# Altium footprint library MicroSMD_50P_V.PcbLib: 85 footprints (part 4 of 7)
Each footprint in its own frame and in the unit in brackets; x right, y up, seen from the top. Pads: shape width x height; smd on the part's side, far side on the other; paste and mask are expansions set on the pad; w line width, h text height; cw(c..) or ccw(c..) is an arc to the next point about the centre after c.
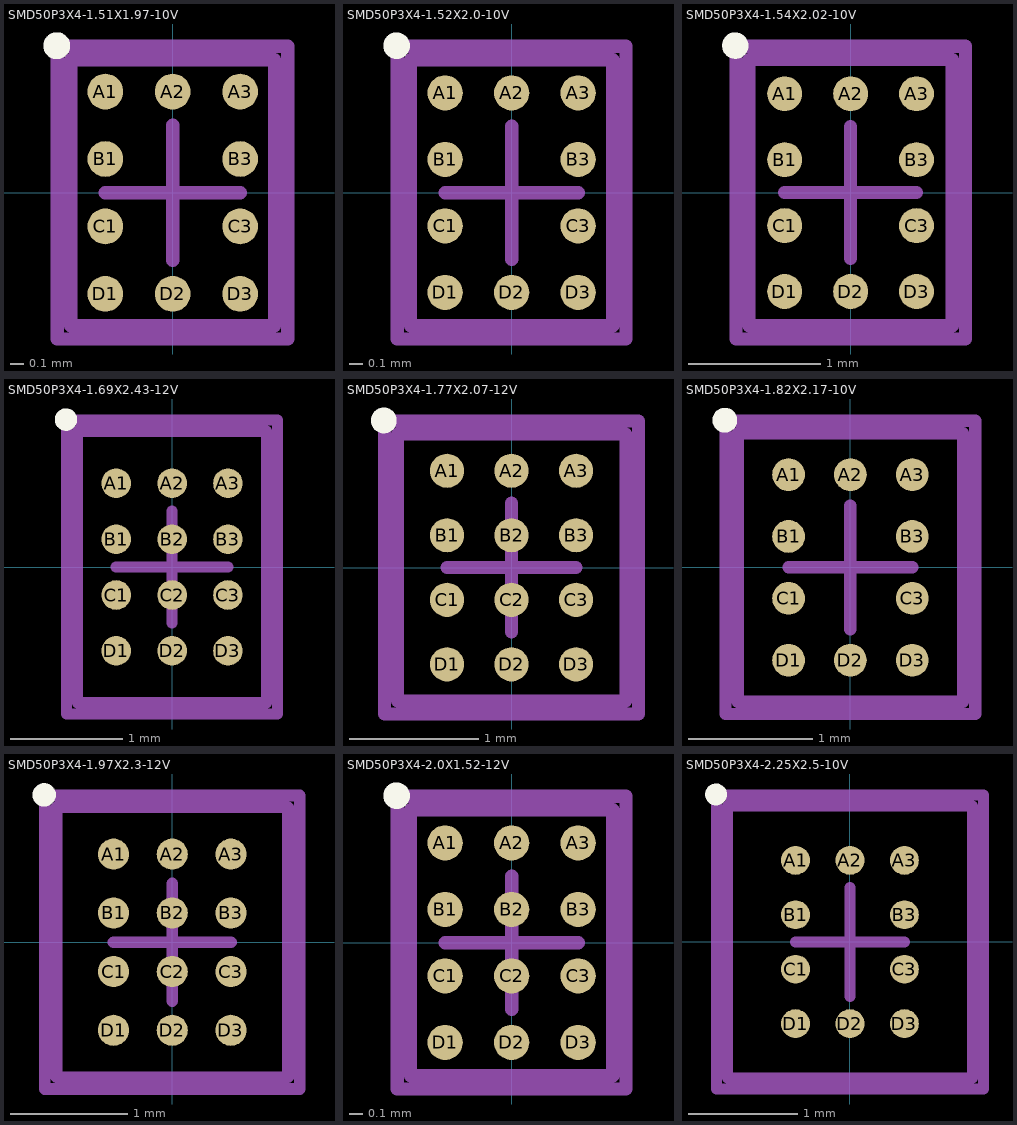
[diagram p3: the footprints below, top view; thin cyan lines are the x and y axes]

## SMD50P3X4-1.51X1.97-10V [mm] "Micro SMD, 10-Leads, Body 1.97x1.51mm, Pitch 0.5mm, NSC Recommended"
height 0.68
pads (10):
  round 0.265 smd paste-0.132 mask+0.05: A1(-0.5,0.75) A2(0,0.75) A3(0.5,0.75) B1(-0.5,0.25) B3(0.5,0.25) C1(-0.5,-0.25) C3(0.5,-0.25) D1(-0.5,-0.75) D2(0,-0.75) D3(0.5,-0.75)
Top Overlay:
  circle w0.1: c-0.86,1.09 r0.05
Top Paste:
  circle w0.05: c0.45,-0.7 r0.025
  circle w0.05: c0.6,-0.85 r0.025
  circle w0.05: c0.6,-0.7 r0.025
  circle w0.05: c0.45,-0.85 r0.025
  circle w0.05: c-0.075,-0.7 r0.025
  circle w0.05: c0.075,-0.85 r0.025
  circle w0.05: c0.075,-0.7 r0.025
  circle w0.05: c-0.075,-0.85 r0.025
  circle w0.05: c-0.6,-0.7 r0.025
  circle w0.05: c-0.45,-0.85 r0.025
  circle w0.05: c-0.45,-0.7 r0.025
  circle w0.05: c-0.6,-0.85 r0.025
  circle w0.05: c0.45,-0.175 r0.025
  circle w0.05: c0.6,-0.325 r0.025
  circle w0.05: c0.6,-0.175 r0.025
  circle w0.05: c0.45,-0.325 r0.025
  circle w0.05: c-0.6,-0.175 r0.025
  circle w0.05: c-0.45,-0.325 r0.025
  circle w0.05: c-0.45,-0.175 r0.025
  circle w0.05: c-0.6,-0.325 r0.025
  circle w0.05: c0.45,0.325 r0.025
  circle w0.05: c0.6,0.175 r0.025
  circle w0.05: c0.6,0.325 r0.025
  circle w0.05: c0.45,0.175 r0.025
  circle w0.05: c-0.6,0.325 r0.025
  circle w0.05: c-0.45,0.175 r0.025
  circle w0.05: c-0.45,0.325 r0.025
  circle w0.05: c-0.6,0.175 r0.025
  circle w0.05: c0.45,0.85 r0.025
  circle w0.05: c0.6,0.7 r0.025
  circle w0.05: c0.6,0.85 r0.025
  circle w0.05: c0.45,0.7 r0.025
  circle w0.05: c-0.075,0.85 r0.025
  circle w0.05: c0.075,0.7 r0.025
  circle w0.05: c0.075,0.85 r0.025
  circle w0.05: c-0.075,0.7 r0.025
  circle w0.05: c-0.6,0.85 r0.025
  circle w0.05: c-0.45,0.7 r0.025
  circle w0.05: c-0.45,0.85 r0.025
  circle w0.05: c-0.6,0.7 r0.025
  region: 0.6,-0.85 0.45,-0.85 0.45,-0.9 0.6,-0.9
  region: 0.6,-0.7 0.6,-0.85 0.65,-0.85 0.65,-0.7
  rectangle: 0.45,-0.7 0.6,-0.65
  region: 0.45,-0.85 0.45,-0.7 0.4,-0.7 0.4,-0.85
  region: 0.45,-0.7 0.45,-0.85 0.6,-0.85 0.6,-0.7
  region: 0.075,-0.85 -0.075,-0.85 -0.075,-0.9 0.075,-0.9
  region: 0.075,-0.7 0.075,-0.85 0.125,-0.85 0.125,-0.7
  rectangle: -0.075,-0.7 0.075,-0.65
  region: -0.075,-0.85 -0.075,-0.7 -0.125,-0.7 -0.125,-0.85
  region: -0.075,-0.7 -0.075,-0.85 0.075,-0.85 0.075,-0.7
  region: -0.45,-0.85 -0.6,-0.85 -0.6,-0.9 -0.45,-0.9
  region: -0.45,-0.7 -0.45,-0.85 -0.4,-0.85 -0.4,-0.7
  rectangle: -0.6,-0.7 -0.45,-0.65
  region: -0.6,-0.85 -0.6,-0.7 -0.65,-0.7 -0.65,-0.85
  region: -0.6,-0.7 -0.6,-0.85 -0.45,-0.85 -0.45,-0.7
  region: 0.6,-0.325 0.45,-0.325 0.45,-0.375 0.6,-0.375
  region: 0.6,-0.175 0.6,-0.325 0.65,-0.325 0.65,-0.175
  rectangle: 0.45,-0.175 0.6,-0.125
  region: 0.45,-0.325 0.45,-0.175 0.4,-0.175 0.4,-0.325
  region: 0.45,-0.175 0.45,-0.325 0.6,-0.325 0.6,-0.175
  region: -0.45,-0.325 -0.6,-0.325 -0.6,-0.375 -0.45,-0.375
  region: -0.45,-0.175 -0.45,-0.325 -0.4,-0.325 -0.4,-0.175
  rectangle: -0.6,-0.175 -0.45,-0.125
  region: -0.6,-0.325 -0.6,-0.175 -0.65,-0.175 -0.65,-0.325
  region: -0.6,-0.175 -0.6,-0.325 -0.45,-0.325 -0.45,-0.175
  region: 0.6,0.175 0.45,0.175 0.45,0.125 0.6,0.125
  region: 0.6,0.325 0.6,0.175 0.65,0.175 0.65,0.325
  rectangle: 0.45,0.325 0.6,0.375
  region: 0.45,0.175 0.45,0.325 0.4,0.325 0.4,0.175
  region: 0.45,0.325 0.45,0.175 0.6,0.175 0.6,0.325
  region: -0.45,0.175 -0.6,0.175 -0.6,0.125 -0.45,0.125
  region: -0.45,0.325 -0.45,0.175 -0.4,0.175 -0.4,0.325
  rectangle: -0.6,0.325 -0.45,0.375
  region: -0.6,0.175 -0.6,0.325 -0.65,0.325 -0.65,0.175
  region: -0.6,0.325 -0.6,0.175 -0.45,0.175 -0.45,0.325
  region: 0.6,0.7 0.45,0.7 0.45,0.65 0.6,0.65
  region: 0.6,0.85 0.6,0.7 0.65,0.7 0.65,0.85
  rectangle: 0.45,0.85 0.6,0.9
  region: 0.45,0.7 0.45,0.85 0.4,0.85 0.4,0.7
  region: 0.45,0.85 0.45,0.7 0.6,0.7 0.6,0.85
  region: 0.075,0.7 -0.075,0.7 -0.075,0.65 0.075,0.65
  region: 0.075,0.85 0.075,0.7 0.125,0.7 0.125,0.85
  rectangle: -0.075,0.85 0.075,0.9
  region: -0.075,0.7 -0.075,0.85 -0.125,0.85 -0.125,0.7
  region: -0.075,0.85 -0.075,0.7 0.075,0.7 0.075,0.85
  region: -0.45,0.7 -0.6,0.7 -0.6,0.65 -0.45,0.65
  region: -0.45,0.85 -0.45,0.7 -0.4,0.7 -0.4,0.85
  rectangle: -0.6,0.85 -0.45,0.9
  region: -0.6,0.7 -0.6,0.85 -0.65,0.85 -0.65,0.7
  region: -0.6,0.85 -0.6,0.7 -0.45,0.7 -0.45,0.85
Mechanical 13:
  lines w0.1: -0.755,-0.985 0.755,-0.985 0.755,0.985 -0.755,0.985 -0.755,-0.985
Mechanical 15:
  lines w0.1: -0.5,0 0.5,0 ; 0,-0.5 0,0.5 ; -0.855,-1.085 0.855,-1.085 0.855,1.085 -0.855,1.085 -0.855,-1.085
3D body: height 0.68, standoff 0, extent -0.76,-0.985 0.76,0.985

## SMD50P3X4-1.52X2.0-10V [mm] "Micro SMD, 10-Leads, Body 2.0x1.52mm, Pitch 0.5mm, NSC Recommended"
height 1.05
pads (10):
  round 0.265 smd paste-0.132 mask+0.05: A1(-0.5,0.75) A2(0,0.75) A3(0.5,0.75) B1(-0.5,0.25) B3(0.5,0.25) C1(-0.5,-0.25) C3(0.5,-0.25) D1(-0.5,-0.75) D2(0,-0.75) D3(0.5,-0.75)
Top Overlay:
  circle w0.1: c-0.865,1.105 r0.05
Top Paste:
  circle w0.05: c-0.6,0.7 r0.025
  circle w0.05: c-0.45,0.85 r0.025
  circle w0.05: c-0.6,0.85 r0.025
  circle w0.05: c-0.45,0.7 r0.025
  circle w0.05: c0.45,0.85 r0.025
  circle w0.05: c0.6,0.7 r0.025
  circle w0.05: c0.6,0.85 r0.025
  circle w0.05: c0.45,0.7 r0.025
  circle w0.05: c0.6,-0.7 r0.025
  circle w0.05: c0.45,-0.85 r0.025
  circle w0.05: c0.6,-0.85 r0.025
  circle w0.05: c0.45,-0.7 r0.025
  circle w0.05: c-0.45,-0.85 r0.025
  circle w0.05: c-0.6,-0.7 r0.025
  circle w0.05: c-0.6,-0.85 r0.025
  circle w0.05: c-0.45,-0.7 r0.025
  circle w0.05: c-0.075,0.7 r0.025
  circle w0.05: c0.075,0.85 r0.025
  circle w0.05: c0.075,0.7 r0.025
  circle w0.05: c-0.075,0.85 r0.025
  circle w0.05: c-0.45,0.175 r0.025
  circle w0.05: c-0.6,0.325 r0.025
  circle w0.05: c-0.45,0.325 r0.025
  circle w0.05: c-0.6,0.175 r0.025
  circle w0.05: c-0.45,-0.325 r0.025
  circle w0.05: c-0.6,-0.175 r0.025
  circle w0.05: c-0.45,-0.175 r0.025
  circle w0.05: c-0.6,-0.325 r0.025
  circle w0.05: c0.075,-0.7 r0.025
  circle w0.05: c-0.075,-0.85 r0.025
  circle w0.05: c-0.075,-0.7 r0.025
  circle w0.05: c0.075,-0.85 r0.025
  circle w0.05: c0.45,-0.175 r0.025
  circle w0.05: c0.6,-0.325 r0.025
  circle w0.05: c0.45,-0.325 r0.025
  circle w0.05: c0.6,-0.175 r0.025
  circle w0.05: c0.45,0.325 r0.025
  circle w0.05: c0.6,0.175 r0.025
  circle w0.05: c0.45,0.175 r0.025
  circle w0.05: c0.6,0.325 r0.025
  region: -0.45,0.85 -0.45,0.7 -0.4,0.7 -0.4,0.85
  rectangle: -0.6,0.85 -0.45,0.9
  region: -0.6,0.7 -0.6,0.85 -0.65,0.85 -0.65,0.7
  region: -0.45,0.7 -0.6,0.7 -0.6,0.65 -0.45,0.65
  rectangle: -0.6,0.7 -0.45,0.85
  region: 0.6,0.7 0.45,0.7 0.45,0.65 0.6,0.65
  region: 0.6,0.85 0.6,0.7 0.65,0.7 0.65,0.85
  rectangle: 0.45,0.85 0.6,0.9
  region: 0.45,0.7 0.45,0.85 0.4,0.85 0.4,0.7
  region: 0.45,0.85 0.45,0.7 0.6,0.7 0.6,0.85
  region: 0.45,-0.85 0.45,-0.7 0.4,-0.7 0.4,-0.85
  region: 0.6,-0.85 0.45,-0.85 0.45,-0.9 0.6,-0.9
  region: 0.6,-0.7 0.6,-0.85 0.65,-0.85 0.65,-0.7
  rectangle: 0.45,-0.7 0.6,-0.65
  region: 0.6,-0.7 0.45,-0.7 0.45,-0.85 0.6,-0.85
  rectangle: -0.6,-0.7 -0.45,-0.65
  region: -0.6,-0.85 -0.6,-0.7 -0.65,-0.7 -0.65,-0.85
  region: -0.45,-0.85 -0.6,-0.85 -0.6,-0.9 -0.45,-0.9
  region: -0.45,-0.7 -0.45,-0.85 -0.4,-0.85 -0.4,-0.7
  region: -0.45,-0.85 -0.45,-0.7 -0.6,-0.7 -0.6,-0.85
  region: -0.075,0.85 -0.075,0.7 0.075,0.7 0.075,0.85
  region: -0.075,0.7 -0.075,0.85 -0.125,0.85 -0.125,0.7
  rectangle: -0.075,0.85 0.075,0.9
  region: 0.075,0.85 0.075,0.7 0.125,0.7 0.125,0.85
  region: 0.075,0.7 -0.075,0.7 -0.075,0.65 0.075,0.65
  rectangle: -0.6,0.175 -0.45,0.325
  region: -0.45,0.175 -0.6,0.175 -0.6,0.125 -0.45,0.125
  region: -0.6,0.175 -0.6,0.325 -0.65,0.325 -0.65,0.175
  rectangle: -0.6,0.325 -0.45,0.375
  region: -0.45,0.325 -0.45,0.175 -0.4,0.175 -0.4,0.325
  rectangle: -0.6,-0.325 -0.45,-0.175
  region: -0.45,-0.325 -0.6,-0.325 -0.6,-0.375 -0.45,-0.375
  region: -0.6,-0.325 -0.6,-0.175 -0.65,-0.175 -0.65,-0.325
  rectangle: -0.6,-0.175 -0.45,-0.125
  region: -0.45,-0.175 -0.45,-0.325 -0.4,-0.325 -0.4,-0.175
  region: 0.075,-0.85 0.075,-0.7 -0.075,-0.7 -0.075,-0.85
  region: 0.075,-0.7 0.075,-0.85 0.125,-0.85 0.125,-0.7
  region: 0.075,-0.85 -0.075,-0.85 -0.075,-0.9 0.075,-0.9
  region: -0.075,-0.85 -0.075,-0.7 -0.125,-0.7 -0.125,-0.85
  rectangle: -0.075,-0.7 0.075,-0.65
  region: 0.6,-0.175 0.45,-0.175 0.45,-0.325 0.6,-0.325
  rectangle: 0.45,-0.175 0.6,-0.125
  region: 0.6,-0.175 0.6,-0.325 0.65,-0.325 0.65,-0.175
  region: 0.6,-0.325 0.45,-0.325 0.45,-0.375 0.6,-0.375
  region: 0.45,-0.325 0.45,-0.175 0.4,-0.175 0.4,-0.325
  region: 0.6,0.325 0.45,0.325 0.45,0.175 0.6,0.175
  rectangle: 0.45,0.325 0.6,0.375
  region: 0.6,0.325 0.6,0.175 0.65,0.175 0.65,0.325
  region: 0.6,0.175 0.45,0.175 0.45,0.125 0.6,0.125
  region: 0.45,0.175 0.45,0.325 0.4,0.325 0.4,0.175
Mechanical 13:
  lines w0.1: -0.76,-1 -0.76,1 0.76,1 0.76,-1 -0.76,-1
Mechanical 15:
  lines w0.1: -0.5,0 0.5,0 ; 0,-0.5 0,0.5 ; -0.86,-1.1 -0.86,1.1 0.86,1.1 0.86,-1.1 -0.86,-1.1
3D body: height 1.05, standoff 0, extent -0.759,-0.999 0.759,0.999

## SMD50P3X4-1.54X2.02-10V [mm] "Micro SMD, 10-Leads, Body 2.02x1.54mm, Pitch 0.5mm, NSC Recommended"
height 0.68
pads (10):
  round 0.265 smd paste-0.132 mask+0.05: A1(-0.5,0.75) A2(0,0.75) A3(0.5,0.75) B1(-0.5,0.25) B3(0.5,0.25) C1(-0.5,-0.25) C3(0.5,-0.25) D1(-0.5,-0.75) D2(0,-0.75) D3(0.5,-0.75)
Top Overlay:
  circle w0.1: c-0.875,1.115 r0.05
Top Paste:
  circle w0.05: c-0.6,0.7 r0.025
  circle w0.05: c-0.45,0.85 r0.025
  circle w0.05: c-0.6,0.85 r0.025
  circle w0.05: c-0.45,0.7 r0.025
  circle w0.05: c0.45,0.85 r0.025
  circle w0.05: c0.6,0.7 r0.025
  circle w0.05: c0.6,0.85 r0.025
  circle w0.05: c0.45,0.7 r0.025
  circle w0.05: c0.6,-0.7 r0.025
  circle w0.05: c0.45,-0.85 r0.025
  circle w0.05: c0.6,-0.85 r0.025
  circle w0.05: c0.45,-0.7 r0.025
  circle w0.05: c-0.45,-0.85 r0.025
  circle w0.05: c-0.6,-0.7 r0.025
  circle w0.05: c-0.6,-0.85 r0.025
  circle w0.05: c-0.45,-0.7 r0.025
  circle w0.05: c-0.075,0.7 r0.025
  circle w0.05: c0.075,0.85 r0.025
  circle w0.05: c0.075,0.7 r0.025
  circle w0.05: c-0.075,0.85 r0.025
  circle w0.05: c-0.45,0.175 r0.025
  circle w0.05: c-0.6,0.325 r0.025
  circle w0.05: c-0.45,0.325 r0.025
  circle w0.05: c-0.6,0.175 r0.025
  circle w0.05: c-0.45,-0.325 r0.025
  circle w0.05: c-0.6,-0.175 r0.025
  circle w0.05: c-0.45,-0.175 r0.025
  circle w0.05: c-0.6,-0.325 r0.025
  circle w0.05: c0.075,-0.7 r0.025
  circle w0.05: c-0.075,-0.85 r0.025
  circle w0.05: c-0.075,-0.7 r0.025
  circle w0.05: c0.075,-0.85 r0.025
  circle w0.05: c0.45,-0.175 r0.025
  circle w0.05: c0.6,-0.325 r0.025
  circle w0.05: c0.45,-0.325 r0.025
  circle w0.05: c0.6,-0.175 r0.025
  circle w0.05: c0.45,0.325 r0.025
  circle w0.05: c0.6,0.175 r0.025
  circle w0.05: c0.45,0.175 r0.025
  circle w0.05: c0.6,0.325 r0.025
  region: -0.45,0.85 -0.45,0.7 -0.4,0.7 -0.4,0.85
  rectangle: -0.6,0.85 -0.45,0.9
  region: -0.6,0.7 -0.6,0.85 -0.65,0.85 -0.65,0.7
  region: -0.45,0.7 -0.6,0.7 -0.6,0.65 -0.45,0.65
  rectangle: -0.6,0.7 -0.45,0.85
  region: 0.6,0.7 0.45,0.7 0.45,0.65 0.6,0.65
  region: 0.6,0.85 0.6,0.7 0.65,0.7 0.65,0.85
  rectangle: 0.45,0.85 0.6,0.9
  region: 0.45,0.7 0.45,0.85 0.4,0.85 0.4,0.7
  region: 0.45,0.85 0.45,0.7 0.6,0.7 0.6,0.85
  region: 0.45,-0.85 0.45,-0.7 0.4,-0.7 0.4,-0.85
  region: 0.6,-0.85 0.45,-0.85 0.45,-0.9 0.6,-0.9
  region: 0.6,-0.7 0.6,-0.85 0.65,-0.85 0.65,-0.7
  rectangle: 0.45,-0.7 0.6,-0.65
  region: 0.6,-0.7 0.45,-0.7 0.45,-0.85 0.6,-0.85
  rectangle: -0.6,-0.7 -0.45,-0.65
  region: -0.6,-0.85 -0.6,-0.7 -0.65,-0.7 -0.65,-0.85
  region: -0.45,-0.85 -0.6,-0.85 -0.6,-0.9 -0.45,-0.9
  region: -0.45,-0.7 -0.45,-0.85 -0.4,-0.85 -0.4,-0.7
  region: -0.45,-0.85 -0.45,-0.7 -0.6,-0.7 -0.6,-0.85
  region: -0.075,0.85 -0.075,0.7 0.075,0.7 0.075,0.85
  region: -0.075,0.7 -0.075,0.85 -0.125,0.85 -0.125,0.7
  rectangle: -0.075,0.85 0.075,0.9
  region: 0.075,0.85 0.075,0.7 0.125,0.7 0.125,0.85
  region: 0.075,0.7 -0.075,0.7 -0.075,0.65 0.075,0.65
  rectangle: -0.6,0.175 -0.45,0.325
  region: -0.45,0.175 -0.6,0.175 -0.6,0.125 -0.45,0.125
  region: -0.6,0.175 -0.6,0.325 -0.65,0.325 -0.65,0.175
  rectangle: -0.6,0.325 -0.45,0.375
  region: -0.45,0.325 -0.45,0.175 -0.4,0.175 -0.4,0.325
  rectangle: -0.6,-0.325 -0.45,-0.175
  region: -0.45,-0.325 -0.6,-0.325 -0.6,-0.375 -0.45,-0.375
  region: -0.6,-0.325 -0.6,-0.175 -0.65,-0.175 -0.65,-0.325
  rectangle: -0.6,-0.175 -0.45,-0.125
  region: -0.45,-0.175 -0.45,-0.325 -0.4,-0.325 -0.4,-0.175
  region: 0.075,-0.85 0.075,-0.7 -0.075,-0.7 -0.075,-0.85
  region: 0.075,-0.7 0.075,-0.85 0.125,-0.85 0.125,-0.7
  region: 0.075,-0.85 -0.075,-0.85 -0.075,-0.9 0.075,-0.9
  region: -0.075,-0.85 -0.075,-0.7 -0.125,-0.7 -0.125,-0.85
  rectangle: -0.075,-0.7 0.075,-0.65
  region: 0.6,-0.175 0.45,-0.175 0.45,-0.325 0.6,-0.325
  rectangle: 0.45,-0.175 0.6,-0.125
  region: 0.6,-0.175 0.6,-0.325 0.65,-0.325 0.65,-0.175
  region: 0.6,-0.325 0.45,-0.325 0.45,-0.375 0.6,-0.375
  region: 0.45,-0.325 0.45,-0.175 0.4,-0.175 0.4,-0.325
  region: 0.6,0.325 0.45,0.325 0.45,0.175 0.6,0.175
  rectangle: 0.45,0.325 0.6,0.375
  region: 0.6,0.325 0.6,0.175 0.65,0.175 0.65,0.325
  region: 0.6,0.175 0.45,0.175 0.45,0.125 0.6,0.125
  region: 0.45,0.175 0.45,0.325 0.4,0.325 0.4,0.175
Mechanical 13:
  lines w0.1: -0.77,-1.01 -0.77,1.01 0.77,1.01 0.77,-1.01 -0.77,-1.01
Mechanical 15:
  lines w0.1: -0.5,0 0.5,0 ; 0,-0.5 0,0.5 ; -0.87,-1.11 -0.87,1.11 0.87,1.11 0.87,-1.11 -0.87,-1.11
3D body: height 0.68, standoff 0, extent -0.769,-1.009 0.769,1.009

## SMD50P3X4-1.69X2.43-12V [mm] "Micro SMD, 12-Leads, Body 2.43x1.69mm, Pitch 0.5mm, NSC Recommended"
height 0.68
pads (12):
  round 0.265 smd paste-0.132 mask+0.05: A1(-0.5,0.75) A2(0,0.75) A3(0.5,0.75) B1(-0.5,0.25) B2(0,0.25) B3(0.5,0.25) C1(-0.5,-0.25) C2(0,-0.25) C3(0.5,-0.25) D1(-0.5,-0.75) D2(0,-0.75) D3(0.5,-0.75)
Top Overlay:
  circle w0.1: c-0.95,1.32 r0.05
Top Paste:
  circle w0.05: c-0.6,0.7 r0.025
  circle w0.05: c-0.45,0.85 r0.025
  circle w0.05: c-0.45,0.7 r0.025
  circle w0.05: c-0.6,0.85 r0.025
  circle w0.05: c-0.075,0.7 r0.025
  circle w0.05: c0.075,0.85 r0.025
  circle w0.05: c0.075,0.7 r0.025
  circle w0.05: c-0.075,0.85 r0.025
  circle w0.05: c0.45,0.7 r0.025
  circle w0.05: c0.6,0.85 r0.025
  circle w0.05: c0.6,0.7 r0.025
  circle w0.05: c0.45,0.85 r0.025
  circle w0.05: c-0.6,0.175 r0.025
  circle w0.05: c-0.45,0.325 r0.025
  circle w0.05: c-0.45,0.175 r0.025
  circle w0.05: c-0.6,0.325 r0.025
  circle w0.05: c-0.075,0.175 r0.025
  circle w0.05: c0.075,0.325 r0.025
  circle w0.05: c0.075,0.175 r0.025
  circle w0.05: c-0.075,0.325 r0.025
  circle w0.05: c0.45,0.175 r0.025
  circle w0.05: c0.6,0.325 r0.025
  circle w0.05: c0.6,0.175 r0.025
  circle w0.05: c0.45,0.325 r0.025
  circle w0.05: c-0.6,-0.325 r0.025
  circle w0.05: c-0.45,-0.175 r0.025
  circle w0.05: c-0.45,-0.325 r0.025
  circle w0.05: c-0.6,-0.175 r0.025
  circle w0.05: c-0.075,-0.325 r0.025
  circle w0.05: c0.075,-0.175 r0.025
  circle w0.05: c0.075,-0.325 r0.025
  circle w0.05: c-0.075,-0.175 r0.025
  circle w0.05: c0.45,-0.325 r0.025
  circle w0.05: c0.6,-0.175 r0.025
  circle w0.05: c0.6,-0.325 r0.025
  circle w0.05: c0.45,-0.175 r0.025
  circle w0.05: c-0.6,-0.85 r0.025
  circle w0.05: c-0.45,-0.7 r0.025
  circle w0.05: c-0.45,-0.85 r0.025
  circle w0.05: c-0.6,-0.7 r0.025
  circle w0.05: c-0.075,-0.85 r0.025
  circle w0.05: c0.075,-0.7 r0.025
  circle w0.05: c0.075,-0.85 r0.025
  circle w0.05: c-0.075,-0.7 r0.025
  circle w0.05: c0.45,-0.85 r0.025
  circle w0.05: c0.6,-0.7 r0.025
  circle w0.05: c0.6,-0.85 r0.025
  circle w0.05: c0.45,-0.7 r0.025
  region: -0.6,0.85 -0.6,0.7 -0.45,0.7 -0.45,0.85
  region: -0.6,0.7 -0.6,0.85 -0.65,0.85 -0.65,0.7
  rectangle: -0.6,0.85 -0.45,0.9
  region: -0.45,0.85 -0.45,0.7 -0.4,0.7 -0.4,0.85
  region: -0.45,0.7 -0.6,0.7 -0.6,0.65 -0.45,0.65
  region: -0.075,0.85 -0.075,0.7 0.075,0.7 0.075,0.85
  region: -0.075,0.7 -0.075,0.85 -0.125,0.85 -0.125,0.7
  rectangle: -0.075,0.85 0.075,0.9
  region: 0.075,0.85 0.075,0.7 0.125,0.7 0.125,0.85
  region: 0.075,0.7 -0.075,0.7 -0.075,0.65 0.075,0.65
  region: 0.45,0.85 0.45,0.7 0.6,0.7 0.6,0.85
  region: 0.45,0.7 0.45,0.85 0.4,0.85 0.4,0.7
  rectangle: 0.45,0.85 0.6,0.9
  region: 0.6,0.85 0.6,0.7 0.65,0.7 0.65,0.85
  region: 0.6,0.7 0.45,0.7 0.45,0.65 0.6,0.65
  region: -0.6,0.325 -0.6,0.175 -0.45,0.175 -0.45,0.325
  region: -0.6,0.175 -0.6,0.325 -0.65,0.325 -0.65,0.175
  rectangle: -0.6,0.325 -0.45,0.375
  region: -0.45,0.325 -0.45,0.175 -0.4,0.175 -0.4,0.325
  region: -0.45,0.175 -0.6,0.175 -0.6,0.125 -0.45,0.125
  region: -0.075,0.325 -0.075,0.175 0.075,0.175 0.075,0.325
  region: -0.075,0.175 -0.075,0.325 -0.125,0.325 -0.125,0.175
  rectangle: -0.075,0.325 0.075,0.375
  region: 0.075,0.325 0.075,0.175 0.125,0.175 0.125,0.325
  region: 0.075,0.175 -0.075,0.175 -0.075,0.125 0.075,0.125
  region: 0.45,0.325 0.45,0.175 0.6,0.175 0.6,0.325
  region: 0.45,0.175 0.45,0.325 0.4,0.325 0.4,0.175
  rectangle: 0.45,0.325 0.6,0.375
  region: 0.6,0.325 0.6,0.175 0.65,0.175 0.65,0.325
  region: 0.6,0.175 0.45,0.175 0.45,0.125 0.6,0.125
  region: -0.6,-0.175 -0.6,-0.325 -0.45,-0.325 -0.45,-0.175
  region: -0.6,-0.325 -0.6,-0.175 -0.65,-0.175 -0.65,-0.325
  rectangle: -0.6,-0.175 -0.45,-0.125
  region: -0.45,-0.175 -0.45,-0.325 -0.4,-0.325 -0.4,-0.175
  region: -0.45,-0.325 -0.6,-0.325 -0.6,-0.375 -0.45,-0.375
  region: -0.075,-0.175 -0.075,-0.325 0.075,-0.325 0.075,-0.175
  region: -0.075,-0.325 -0.075,-0.175 -0.125,-0.175 -0.125,-0.325
  rectangle: -0.075,-0.175 0.075,-0.125
  region: 0.075,-0.175 0.075,-0.325 0.125,-0.325 0.125,-0.175
  region: 0.075,-0.325 -0.075,-0.325 -0.075,-0.375 0.075,-0.375
  region: 0.45,-0.175 0.45,-0.325 0.6,-0.325 0.6,-0.175
  region: 0.45,-0.325 0.45,-0.175 0.4,-0.175 0.4,-0.325
  rectangle: 0.45,-0.175 0.6,-0.125
  region: 0.6,-0.175 0.6,-0.325 0.65,-0.325 0.65,-0.175
  region: 0.6,-0.325 0.45,-0.325 0.45,-0.375 0.6,-0.375
  region: -0.6,-0.7 -0.6,-0.85 -0.45,-0.85 -0.45,-0.7
  region: -0.6,-0.85 -0.6,-0.7 -0.65,-0.7 -0.65,-0.85
  rectangle: -0.6,-0.7 -0.45,-0.65
  region: -0.45,-0.7 -0.45,-0.85 -0.4,-0.85 -0.4,-0.7
  region: -0.45,-0.85 -0.6,-0.85 -0.6,-0.9 -0.45,-0.9
  region: -0.075,-0.7 -0.075,-0.85 0.075,-0.85 0.075,-0.7
  region: -0.075,-0.85 -0.075,-0.7 -0.125,-0.7 -0.125,-0.85
  rectangle: -0.075,-0.7 0.075,-0.65
  region: 0.075,-0.7 0.075,-0.85 0.125,-0.85 0.125,-0.7
  region: 0.075,-0.85 -0.075,-0.85 -0.075,-0.9 0.075,-0.9
  region: 0.45,-0.7 0.45,-0.85 0.6,-0.85 0.6,-0.7
  region: 0.45,-0.85 0.45,-0.7 0.4,-0.7 0.4,-0.85
  rectangle: 0.45,-0.7 0.6,-0.65
  region: 0.6,-0.7 0.6,-0.85 0.65,-0.85 0.65,-0.7
  region: 0.6,-0.85 0.45,-0.85 0.45,-0.9 0.6,-0.9
Mechanical 13:
  lines w0.1: -0.845,-1.215 -0.845,1.215 0.845,1.215 0.845,-1.215 -0.845,-1.215
Mechanical 15:
  lines w0.1: -0.5,0 0.5,0 ; 0,-0.5 0,0.5 ; -0.945,-1.315 -0.945,1.315 0.945,1.315 0.945,-1.315 -0.945,-1.315
3D body: height 0.68, standoff 0, extent -0.845,-1.215 0.845,1.215

## SMD50P3X4-1.77X2.07-12V [mm] "Micro SMD, 12-Leads, Body 2.07x1.77mm, Pitch 0.5mm, NSC Recommended"
height 0.68
pads (12):
  round 0.265 smd paste-0.132 mask+0.05: A1(-0.5,0.75) A2(0,0.75) A3(0.5,0.75) B1(-0.5,0.25) B2(0,0.25) B3(0.5,0.25) C1(-0.5,-0.25) C2(0,-0.25) C3(0.5,-0.25) D1(-0.5,-0.75) D2(0,-0.75) D3(0.5,-0.75)
Top Overlay:
  circle w0.1: c-0.99,1.14 r0.05
Top Paste:
  circle w0.05: c0.45,-0.7 r0.025
  circle w0.05: c0.6,-0.85 r0.025
  circle w0.05: c0.6,-0.7 r0.025
  circle w0.05: c0.45,-0.85 r0.025
  circle w0.05: c-0.075,-0.7 r0.025
  circle w0.05: c0.075,-0.85 r0.025
  circle w0.05: c0.075,-0.7 r0.025
  circle w0.05: c-0.075,-0.85 r0.025
  circle w0.05: c-0.6,-0.7 r0.025
  circle w0.05: c-0.45,-0.85 r0.025
  circle w0.05: c-0.45,-0.7 r0.025
  circle w0.05: c-0.6,-0.85 r0.025
  circle w0.05: c0.45,-0.175 r0.025
  circle w0.05: c0.6,-0.325 r0.025
  circle w0.05: c0.6,-0.175 r0.025
  circle w0.05: c0.45,-0.325 r0.025
  circle w0.05: c-0.075,-0.175 r0.025
  circle w0.05: c0.075,-0.325 r0.025
  circle w0.05: c0.075,-0.175 r0.025
  circle w0.05: c-0.075,-0.325 r0.025
  circle w0.05: c-0.6,-0.175 r0.025
  circle w0.05: c-0.45,-0.325 r0.025
  circle w0.05: c-0.45,-0.175 r0.025
  circle w0.05: c-0.6,-0.325 r0.025
  circle w0.05: c0.45,0.325 r0.025
  circle w0.05: c0.6,0.175 r0.025
  circle w0.05: c0.6,0.325 r0.025
  circle w0.05: c0.45,0.175 r0.025
  circle w0.05: c-0.075,0.325 r0.025
  circle w0.05: c0.075,0.175 r0.025
  circle w0.05: c0.075,0.325 r0.025
  circle w0.05: c-0.075,0.175 r0.025
  circle w0.05: c-0.6,0.325 r0.025
  circle w0.05: c-0.45,0.175 r0.025
  circle w0.05: c-0.45,0.325 r0.025
  circle w0.05: c-0.6,0.175 r0.025
  circle w0.05: c0.45,0.85 r0.025
  circle w0.05: c0.6,0.7 r0.025
  circle w0.05: c0.6,0.85 r0.025
  circle w0.05: c0.45,0.7 r0.025
  circle w0.05: c-0.075,0.85 r0.025
  circle w0.05: c0.075,0.7 r0.025
  circle w0.05: c0.075,0.85 r0.025
  circle w0.05: c-0.075,0.7 r0.025
  circle w0.05: c-0.6,0.85 r0.025
  circle w0.05: c-0.45,0.7 r0.025
  circle w0.05: c-0.45,0.85 r0.025
  circle w0.05: c-0.6,0.7 r0.025
  region: 0.6,-0.85 0.45,-0.85 0.45,-0.9 0.6,-0.9
  region: 0.6,-0.7 0.6,-0.85 0.65,-0.85 0.65,-0.7
  rectangle: 0.45,-0.7 0.6,-0.65
  region: 0.45,-0.85 0.45,-0.7 0.4,-0.7 0.4,-0.85
  region: 0.45,-0.7 0.45,-0.85 0.6,-0.85 0.6,-0.7
  region: 0.075,-0.85 -0.075,-0.85 -0.075,-0.9 0.075,-0.9
  region: 0.075,-0.7 0.075,-0.85 0.125,-0.85 0.125,-0.7
  rectangle: -0.075,-0.7 0.075,-0.65
  region: -0.075,-0.85 -0.075,-0.7 -0.125,-0.7 -0.125,-0.85
  region: -0.075,-0.7 -0.075,-0.85 0.075,-0.85 0.075,-0.7
  region: -0.45,-0.85 -0.6,-0.85 -0.6,-0.9 -0.45,-0.9
  region: -0.45,-0.7 -0.45,-0.85 -0.4,-0.85 -0.4,-0.7
  rectangle: -0.6,-0.7 -0.45,-0.65
  region: -0.6,-0.85 -0.6,-0.7 -0.65,-0.7 -0.65,-0.85
  region: -0.6,-0.7 -0.6,-0.85 -0.45,-0.85 -0.45,-0.7
  region: 0.6,-0.325 0.45,-0.325 0.45,-0.375 0.6,-0.375
  region: 0.6,-0.175 0.6,-0.325 0.65,-0.325 0.65,-0.175
  rectangle: 0.45,-0.175 0.6,-0.125
  region: 0.45,-0.325 0.45,-0.175 0.4,-0.175 0.4,-0.325
  region: 0.45,-0.175 0.45,-0.325 0.6,-0.325 0.6,-0.175
  region: 0.075,-0.325 -0.075,-0.325 -0.075,-0.375 0.075,-0.375
  region: 0.075,-0.175 0.075,-0.325 0.125,-0.325 0.125,-0.175
  rectangle: -0.075,-0.175 0.075,-0.125
  region: -0.075,-0.325 -0.075,-0.175 -0.125,-0.175 -0.125,-0.325
  region: -0.075,-0.175 -0.075,-0.325 0.075,-0.325 0.075,-0.175
  region: -0.45,-0.325 -0.6,-0.325 -0.6,-0.375 -0.45,-0.375
  region: -0.45,-0.175 -0.45,-0.325 -0.4,-0.325 -0.4,-0.175
  rectangle: -0.6,-0.175 -0.45,-0.125
  region: -0.6,-0.325 -0.6,-0.175 -0.65,-0.175 -0.65,-0.325
  region: -0.6,-0.175 -0.6,-0.325 -0.45,-0.325 -0.45,-0.175
  region: 0.6,0.175 0.45,0.175 0.45,0.125 0.6,0.125
  region: 0.6,0.325 0.6,0.175 0.65,0.175 0.65,0.325
  rectangle: 0.45,0.325 0.6,0.375
  region: 0.45,0.175 0.45,0.325 0.4,0.325 0.4,0.175
  region: 0.45,0.325 0.45,0.175 0.6,0.175 0.6,0.325
  region: 0.075,0.175 -0.075,0.175 -0.075,0.125 0.075,0.125
  region: 0.075,0.325 0.075,0.175 0.125,0.175 0.125,0.325
  rectangle: -0.075,0.325 0.075,0.375
  region: -0.075,0.175 -0.075,0.325 -0.125,0.325 -0.125,0.175
  region: -0.075,0.325 -0.075,0.175 0.075,0.175 0.075,0.325
  region: -0.45,0.175 -0.6,0.175 -0.6,0.125 -0.45,0.125
  region: -0.45,0.325 -0.45,0.175 -0.4,0.175 -0.4,0.325
  rectangle: -0.6,0.325 -0.45,0.375
  region: -0.6,0.175 -0.6,0.325 -0.65,0.325 -0.65,0.175
  region: -0.6,0.325 -0.6,0.175 -0.45,0.175 -0.45,0.325
  region: 0.6,0.7 0.45,0.7 0.45,0.65 0.6,0.65
  region: 0.6,0.85 0.6,0.7 0.65,0.7 0.65,0.85
  rectangle: 0.45,0.85 0.6,0.9
  region: 0.45,0.7 0.45,0.85 0.4,0.85 0.4,0.7
  region: 0.45,0.85 0.45,0.7 0.6,0.7 0.6,0.85
  region: 0.075,0.7 -0.075,0.7 -0.075,0.65 0.075,0.65
  region: 0.075,0.85 0.075,0.7 0.125,0.7 0.125,0.85
  rectangle: -0.075,0.85 0.075,0.9
  region: -0.075,0.7 -0.075,0.85 -0.125,0.85 -0.125,0.7
  region: -0.075,0.85 -0.075,0.7 0.075,0.7 0.075,0.85
  region: -0.45,0.7 -0.6,0.7 -0.6,0.65 -0.45,0.65
  region: -0.45,0.85 -0.45,0.7 -0.4,0.7 -0.4,0.85
  rectangle: -0.6,0.85 -0.45,0.9
  region: -0.6,0.7 -0.6,0.85 -0.65,0.85 -0.65,0.7
  region: -0.6,0.85 -0.6,0.7 -0.45,0.7 -0.45,0.85
Mechanical 13:
  lines w0.1: -0.885,-1.035 0.885,-1.035 0.885,1.035 -0.885,1.035 -0.885,-1.035
Mechanical 15:
  lines w0.1: -0.5,0 0.5,0 ; 0,-0.5 0,0.5 ; -0.985,-1.135 0.985,-1.135 0.985,1.135 -0.985,1.135 -0.985,-1.135
3D body: height 0.68, standoff 0, extent -0.885,-1.04 0.885,1.04

## SMD50P3X4-1.82X2.17-10V [mm] "Micro SMD, 10-Leads, Body 2.17x1.82mm, Pitch 0.5mm, NSC Recommended"
height 0.68
pads (10):
  round 0.265 smd paste-0.132 mask+0.05: A1(-0.5,0.75) A2(0,0.75) A3(0.5,0.75) B1(-0.5,0.25) B3(0.5,0.25) C1(-0.5,-0.25) C3(0.5,-0.25) D1(-0.5,-0.75) D2(0,-0.75) D3(0.5,-0.75)
Top Overlay:
  circle w0.1: c-1.015,1.19 r0.05
Top Paste:
  circle w0.05: c0.45,-0.7 r0.025
  circle w0.05: c0.6,-0.85 r0.025
  circle w0.05: c0.6,-0.7 r0.025
  circle w0.05: c0.45,-0.85 r0.025
  circle w0.05: c-0.075,-0.7 r0.025
  circle w0.05: c0.075,-0.85 r0.025
  circle w0.05: c0.075,-0.7 r0.025
  circle w0.05: c-0.075,-0.85 r0.025
  circle w0.05: c-0.6,-0.7 r0.025
  circle w0.05: c-0.45,-0.85 r0.025
  circle w0.05: c-0.45,-0.7 r0.025
  circle w0.05: c-0.6,-0.85 r0.025
  circle w0.05: c0.45,-0.175 r0.025
  circle w0.05: c0.6,-0.325 r0.025
  circle w0.05: c0.6,-0.175 r0.025
  circle w0.05: c0.45,-0.325 r0.025
  circle w0.05: c-0.6,-0.175 r0.025
  circle w0.05: c-0.45,-0.325 r0.025
  circle w0.05: c-0.45,-0.175 r0.025
  circle w0.05: c-0.6,-0.325 r0.025
  circle w0.05: c0.45,0.325 r0.025
  circle w0.05: c0.6,0.175 r0.025
  circle w0.05: c0.6,0.325 r0.025
  circle w0.05: c0.45,0.175 r0.025
  circle w0.05: c-0.6,0.325 r0.025
  circle w0.05: c-0.45,0.175 r0.025
  circle w0.05: c-0.45,0.325 r0.025
  circle w0.05: c-0.6,0.175 r0.025
  circle w0.05: c0.45,0.85 r0.025
  circle w0.05: c0.6,0.7 r0.025
  circle w0.05: c0.6,0.85 r0.025
  circle w0.05: c0.45,0.7 r0.025
  circle w0.05: c-0.075,0.85 r0.025
  circle w0.05: c0.075,0.7 r0.025
  circle w0.05: c0.075,0.85 r0.025
  circle w0.05: c-0.075,0.7 r0.025
  circle w0.05: c-0.6,0.85 r0.025
  circle w0.05: c-0.45,0.7 r0.025
  circle w0.05: c-0.45,0.85 r0.025
  circle w0.05: c-0.6,0.7 r0.025
  region: 0.6,-0.85 0.45,-0.85 0.45,-0.9 0.6,-0.9
  region: 0.6,-0.7 0.6,-0.85 0.65,-0.85 0.65,-0.7
  rectangle: 0.45,-0.7 0.6,-0.65
  region: 0.45,-0.85 0.45,-0.7 0.4,-0.7 0.4,-0.85
  region: 0.45,-0.7 0.45,-0.85 0.6,-0.85 0.6,-0.7
  region: 0.075,-0.85 -0.075,-0.85 -0.075,-0.9 0.075,-0.9
  region: 0.075,-0.7 0.075,-0.85 0.125,-0.85 0.125,-0.7
  rectangle: -0.075,-0.7 0.075,-0.65
  region: -0.075,-0.85 -0.075,-0.7 -0.125,-0.7 -0.125,-0.85
  region: -0.075,-0.7 -0.075,-0.85 0.075,-0.85 0.075,-0.7
  region: -0.45,-0.85 -0.6,-0.85 -0.6,-0.9 -0.45,-0.9
  region: -0.45,-0.7 -0.45,-0.85 -0.4,-0.85 -0.4,-0.7
  rectangle: -0.6,-0.7 -0.45,-0.65
  region: -0.6,-0.85 -0.6,-0.7 -0.65,-0.7 -0.65,-0.85
  region: -0.6,-0.7 -0.6,-0.85 -0.45,-0.85 -0.45,-0.7
  region: 0.6,-0.325 0.45,-0.325 0.45,-0.375 0.6,-0.375
  region: 0.6,-0.175 0.6,-0.325 0.65,-0.325 0.65,-0.175
  rectangle: 0.45,-0.175 0.6,-0.125
  region: 0.45,-0.325 0.45,-0.175 0.4,-0.175 0.4,-0.325
  region: 0.45,-0.175 0.45,-0.325 0.6,-0.325 0.6,-0.175
  region: -0.45,-0.325 -0.6,-0.325 -0.6,-0.375 -0.45,-0.375
  region: -0.45,-0.175 -0.45,-0.325 -0.4,-0.325 -0.4,-0.175
  rectangle: -0.6,-0.175 -0.45,-0.125
  region: -0.6,-0.325 -0.6,-0.175 -0.65,-0.175 -0.65,-0.325
  region: -0.6,-0.175 -0.6,-0.325 -0.45,-0.325 -0.45,-0.175
  region: 0.6,0.175 0.45,0.175 0.45,0.125 0.6,0.125
  region: 0.6,0.325 0.6,0.175 0.65,0.175 0.65,0.325
  rectangle: 0.45,0.325 0.6,0.375
  region: 0.45,0.175 0.45,0.325 0.4,0.325 0.4,0.175
  region: 0.45,0.325 0.45,0.175 0.6,0.175 0.6,0.325
  region: -0.45,0.175 -0.6,0.175 -0.6,0.125 -0.45,0.125
  region: -0.45,0.325 -0.45,0.175 -0.4,0.175 -0.4,0.325
  rectangle: -0.6,0.325 -0.45,0.375
  region: -0.6,0.175 -0.6,0.325 -0.65,0.325 -0.65,0.175
  region: -0.6,0.325 -0.6,0.175 -0.45,0.175 -0.45,0.325
  region: 0.6,0.7 0.45,0.7 0.45,0.65 0.6,0.65
  region: 0.6,0.85 0.6,0.7 0.65,0.7 0.65,0.85
  rectangle: 0.45,0.85 0.6,0.9
  region: 0.45,0.7 0.45,0.85 0.4,0.85 0.4,0.7
  region: 0.45,0.85 0.45,0.7 0.6,0.7 0.6,0.85
  region: 0.075,0.7 -0.075,0.7 -0.075,0.65 0.075,0.65
  region: 0.075,0.85 0.075,0.7 0.125,0.7 0.125,0.85
  rectangle: -0.075,0.85 0.075,0.9
  region: -0.075,0.7 -0.075,0.85 -0.125,0.85 -0.125,0.7
  region: -0.075,0.85 -0.075,0.7 0.075,0.7 0.075,0.85
  region: -0.45,0.7 -0.6,0.7 -0.6,0.65 -0.45,0.65
  region: -0.45,0.85 -0.45,0.7 -0.4,0.7 -0.4,0.85
  rectangle: -0.6,0.85 -0.45,0.9
  region: -0.6,0.7 -0.6,0.85 -0.65,0.85 -0.65,0.7
  region: -0.6,0.85 -0.6,0.7 -0.45,0.7 -0.45,0.85
Mechanical 13:
  lines w0.1: -0.91,-1.085 0.91,-1.085 0.91,1.085 -0.91,1.085 -0.91,-1.085
Mechanical 15:
  lines w0.1: -0.5,0 0.5,0 ; 0,-0.5 0,0.5 ; -1.01,-1.185 1.01,-1.185 1.01,1.185 -1.01,1.185 -1.01,-1.185
3D body: height 0.68, standoff 0, extent -0.91,-1.09 0.91,1.09

## SMD50P3X4-1.97X2.3-12V [mm] "Micro SMD, 12-Leads, Body 2.3x1.97mm, Pitch 0.5mm, NSC Recommended"
height 0.68
pads (12):
  round 0.265 smd paste-0.132 mask+0.05: A1(-0.5,0.75) A2(0,0.75) A3(0.5,0.75) B1(-0.5,0.25) B2(0,0.25) B3(0.5,0.25) C1(-0.5,-0.25) C2(0,-0.25) C3(0.5,-0.25) D1(-0.5,-0.75) D2(0,-0.75) D3(0.5,-0.75)
Top Overlay:
  circle w0.1: c-1.09,1.255 r0.05
Top Paste:
  circle w0.05: c-0.6,0.7 r0.025
  circle w0.05: c-0.45,0.85 r0.025
  circle w0.05: c-0.45,0.7 r0.025
  circle w0.05: c-0.6,0.85 r0.025
  circle w0.05: c-0.075,0.7 r0.025
  circle w0.05: c0.075,0.85 r0.025
  circle w0.05: c0.075,0.7 r0.025
  circle w0.05: c-0.075,0.85 r0.025
  circle w0.05: c0.45,0.7 r0.025
  circle w0.05: c0.6,0.85 r0.025
  circle w0.05: c0.6,0.7 r0.025
  circle w0.05: c0.45,0.85 r0.025
  circle w0.05: c-0.6,0.175 r0.025
  circle w0.05: c-0.45,0.325 r0.025
  circle w0.05: c-0.45,0.175 r0.025
  circle w0.05: c-0.6,0.325 r0.025
  circle w0.05: c-0.075,0.175 r0.025
  circle w0.05: c0.075,0.325 r0.025
  circle w0.05: c0.075,0.175 r0.025
  circle w0.05: c-0.075,0.325 r0.025
  circle w0.05: c0.45,0.175 r0.025
  circle w0.05: c0.6,0.325 r0.025
  circle w0.05: c0.6,0.175 r0.025
  circle w0.05: c0.45,0.325 r0.025
  circle w0.05: c-0.6,-0.325 r0.025
  circle w0.05: c-0.45,-0.175 r0.025
  circle w0.05: c-0.45,-0.325 r0.025
  circle w0.05: c-0.6,-0.175 r0.025
  circle w0.05: c-0.075,-0.325 r0.025
  circle w0.05: c0.075,-0.175 r0.025
  circle w0.05: c0.075,-0.325 r0.025
  circle w0.05: c-0.075,-0.175 r0.025
  circle w0.05: c0.45,-0.325 r0.025
  circle w0.05: c0.6,-0.175 r0.025
  circle w0.05: c0.6,-0.325 r0.025
  circle w0.05: c0.45,-0.175 r0.025
  circle w0.05: c-0.6,-0.85 r0.025
  circle w0.05: c-0.45,-0.7 r0.025
  circle w0.05: c-0.45,-0.85 r0.025
  circle w0.05: c-0.6,-0.7 r0.025
  circle w0.05: c-0.075,-0.85 r0.025
  circle w0.05: c0.075,-0.7 r0.025
  circle w0.05: c0.075,-0.85 r0.025
  circle w0.05: c-0.075,-0.7 r0.025
  circle w0.05: c0.45,-0.85 r0.025
  circle w0.05: c0.6,-0.7 r0.025
  circle w0.05: c0.6,-0.85 r0.025
  circle w0.05: c0.45,-0.7 r0.025
  region: -0.6,0.85 -0.6,0.7 -0.45,0.7 -0.45,0.85
  region: -0.6,0.7 -0.6,0.85 -0.65,0.85 -0.65,0.7
  rectangle: -0.6,0.85 -0.45,0.9
  region: -0.45,0.85 -0.45,0.7 -0.4,0.7 -0.4,0.85
  region: -0.45,0.7 -0.6,0.7 -0.6,0.65 -0.45,0.65
  region: -0.075,0.85 -0.075,0.7 0.075,0.7 0.075,0.85
  region: -0.075,0.7 -0.075,0.85 -0.125,0.85 -0.125,0.7
  rectangle: -0.075,0.85 0.075,0.9
  region: 0.075,0.85 0.075,0.7 0.125,0.7 0.125,0.85
  region: 0.075,0.7 -0.075,0.7 -0.075,0.65 0.075,0.65
  region: 0.45,0.85 0.45,0.7 0.6,0.7 0.6,0.85
  region: 0.45,0.7 0.45,0.85 0.4,0.85 0.4,0.7
  rectangle: 0.45,0.85 0.6,0.9
  region: 0.6,0.85 0.6,0.7 0.65,0.7 0.65,0.85
  region: 0.6,0.7 0.45,0.7 0.45,0.65 0.6,0.65
  region: -0.6,0.325 -0.6,0.175 -0.45,0.175 -0.45,0.325
  region: -0.6,0.175 -0.6,0.325 -0.65,0.325 -0.65,0.175
  rectangle: -0.6,0.325 -0.45,0.375
  region: -0.45,0.325 -0.45,0.175 -0.4,0.175 -0.4,0.325
  region: -0.45,0.175 -0.6,0.175 -0.6,0.125 -0.45,0.125
  region: -0.075,0.325 -0.075,0.175 0.075,0.175 0.075,0.325
  region: -0.075,0.175 -0.075,0.325 -0.125,0.325 -0.125,0.175
  rectangle: -0.075,0.325 0.075,0.375
  region: 0.075,0.325 0.075,0.175 0.125,0.175 0.125,0.325
  region: 0.075,0.175 -0.075,0.175 -0.075,0.125 0.075,0.125
  region: 0.45,0.325 0.45,0.175 0.6,0.175 0.6,0.325
  region: 0.45,0.175 0.45,0.325 0.4,0.325 0.4,0.175
  rectangle: 0.45,0.325 0.6,0.375
  region: 0.6,0.325 0.6,0.175 0.65,0.175 0.65,0.325
  region: 0.6,0.175 0.45,0.175 0.45,0.125 0.6,0.125
  region: -0.6,-0.175 -0.6,-0.325 -0.45,-0.325 -0.45,-0.175
  region: -0.6,-0.325 -0.6,-0.175 -0.65,-0.175 -0.65,-0.325
  rectangle: -0.6,-0.175 -0.45,-0.125
  region: -0.45,-0.175 -0.45,-0.325 -0.4,-0.325 -0.4,-0.175
  region: -0.45,-0.325 -0.6,-0.325 -0.6,-0.375 -0.45,-0.375
  region: -0.075,-0.175 -0.075,-0.325 0.075,-0.325 0.075,-0.175
  region: -0.075,-0.325 -0.075,-0.175 -0.125,-0.175 -0.125,-0.325
  rectangle: -0.075,-0.175 0.075,-0.125
  region: 0.075,-0.175 0.075,-0.325 0.125,-0.325 0.125,-0.175
  region: 0.075,-0.325 -0.075,-0.325 -0.075,-0.375 0.075,-0.375
  region: 0.45,-0.175 0.45,-0.325 0.6,-0.325 0.6,-0.175
  region: 0.45,-0.325 0.45,-0.175 0.4,-0.175 0.4,-0.325
  rectangle: 0.45,-0.175 0.6,-0.125
  region: 0.6,-0.175 0.6,-0.325 0.65,-0.325 0.65,-0.175
  region: 0.6,-0.325 0.45,-0.325 0.45,-0.375 0.6,-0.375
  region: -0.6,-0.7 -0.6,-0.85 -0.45,-0.85 -0.45,-0.7
  region: -0.6,-0.85 -0.6,-0.7 -0.65,-0.7 -0.65,-0.85
  rectangle: -0.6,-0.7 -0.45,-0.65
  region: -0.45,-0.7 -0.45,-0.85 -0.4,-0.85 -0.4,-0.7
  region: -0.45,-0.85 -0.6,-0.85 -0.6,-0.9 -0.45,-0.9
  region: -0.075,-0.7 -0.075,-0.85 0.075,-0.85 0.075,-0.7
  region: -0.075,-0.85 -0.075,-0.7 -0.125,-0.7 -0.125,-0.85
  rectangle: -0.075,-0.7 0.075,-0.65
  region: 0.075,-0.7 0.075,-0.85 0.125,-0.85 0.125,-0.7
  region: 0.075,-0.85 -0.075,-0.85 -0.075,-0.9 0.075,-0.9
  region: 0.45,-0.7 0.45,-0.85 0.6,-0.85 0.6,-0.7
  region: 0.45,-0.85 0.45,-0.7 0.4,-0.7 0.4,-0.85
  rectangle: 0.45,-0.7 0.6,-0.65
  region: 0.6,-0.7 0.6,-0.85 0.65,-0.85 0.65,-0.7
  region: 0.6,-0.85 0.45,-0.85 0.45,-0.9 0.6,-0.9
Mechanical 13:
  lines w0.1: -0.985,-1.15 -0.985,1.15 0.985,1.15 0.985,-1.15 -0.985,-1.15
Mechanical 15:
  lines w0.1: -0.5,0 0.5,0 ; 0,-0.5 0,0.5 ; -1.085,-1.25 -1.085,1.25 1.085,1.25 1.085,-1.25 -1.085,-1.25
3D body: height 0.68, standoff 0, extent -0.985,-1.15 0.985,1.15

## SMD50P3X4-2.0X1.52-12V [mm] "Micro SMD, 12-Leads, Body 1.52x2.0mm, Pitch 0.5mm, NSC Recommended"
height 0.68
pads (12):
  round 0.265 smd paste-0.132 mask+0.05: A1(-0.5,0.75) A2(0,0.75) A3(0.5,0.75) B1(-0.5,0.25) B2(0,0.25) B3(0.5,0.25) C1(-0.5,-0.25) C2(0,-0.25) C3(0.5,-0.25) D1(-0.5,-0.75) D2(0,-0.75) D3(0.5,-0.75)
Top Overlay:
  circle w0.1: c-0.865,1.105 r0.05
Top Paste:
  circle w0.05: c0.075,-0.7 r0.025
  circle w0.05: c-0.075,-0.85 r0.025
  circle w0.05: c-0.075,-0.7 r0.025
  circle w0.05: c0.075,-0.85 r0.025
  circle w0.05: c-0.45,0.175 r0.025
  circle w0.05: c-0.6,0.325 r0.025
  circle w0.05: c-0.6,0.175 r0.025
  circle w0.05: c-0.45,0.325 r0.025
  circle w0.05: c-0.45,-0.325 r0.025
  circle w0.05: c-0.6,-0.175 r0.025
  circle w0.05: c-0.6,-0.325 r0.025
  circle w0.05: c-0.45,-0.175 r0.025
  circle w0.05: c0.075,0.7 r0.025
  circle w0.05: c-0.075,0.85 r0.025
  circle w0.05: c-0.075,0.7 r0.025
  circle w0.05: c0.075,0.85 r0.025
  circle w0.05: c0.6,-0.325 r0.025
  circle w0.05: c0.45,-0.175 r0.025
  circle w0.05: c0.45,-0.325 r0.025
  circle w0.05: c0.6,-0.175 r0.025
  circle w0.05: c0.6,0.175 r0.025
  circle w0.05: c0.45,0.325 r0.025
  circle w0.05: c0.45,0.175 r0.025
  circle w0.05: c0.6,0.325 r0.025
  circle w0.05: c0.075,0.325 r0.025
  circle w0.05: c-0.075,0.175 r0.025
  circle w0.05: c-0.075,0.325 r0.025
  circle w0.05: c0.075,0.175 r0.025
  circle w0.05: c0.075,-0.175 r0.025
  circle w0.05: c-0.075,-0.325 r0.025
  circle w0.05: c-0.075,-0.175 r0.025
  circle w0.05: c0.075,-0.325 r0.025
  circle w0.05: c-0.45,0.7 r0.025
  circle w0.05: c-0.6,0.85 r0.025
  circle w0.05: c-0.6,0.7 r0.025
  circle w0.05: c-0.45,0.85 r0.025
  circle w0.05: c0.6,0.7 r0.025
  circle w0.05: c0.45,0.85 r0.025
  circle w0.05: c0.45,0.7 r0.025
  circle w0.05: c0.6,0.85 r0.025
  circle w0.05: c-0.45,-0.7 r0.025
  circle w0.05: c-0.6,-0.85 r0.025
  circle w0.05: c-0.6,-0.7 r0.025
  circle w0.05: c-0.45,-0.85 r0.025
  circle w0.05: c0.6,-0.7 r0.025
  circle w0.05: c0.45,-0.85 r0.025
  circle w0.05: c0.45,-0.7 r0.025
  circle w0.05: c0.6,-0.85 r0.025
  rectangle: -0.075,-0.9 0.075,-0.85
  region: -0.125,-0.7 -0.125,-0.85 -0.075,-0.85 -0.075,-0.7
  region: 0.075,-0.65 -0.075,-0.65 -0.075,-0.7 0.075,-0.7
  region: 0.125,-0.85 0.125,-0.7 0.075,-0.7 0.075,-0.85
  region: -0.075,-0.7 -0.075,-0.85 0.075,-0.85 0.075,-0.7
  region: -0.6,0.325 -0.6,0.175 -0.45,0.175 -0.45,0.325
  region: -0.4,0.175 -0.4,0.325 -0.45,0.325 -0.45,0.175
  region: -0.45,0.375 -0.6,0.375 -0.6,0.325 -0.45,0.325
  region: -0.65,0.325 -0.65,0.175 -0.6,0.175 -0.6,0.325
  rectangle: -0.6,0.125 -0.45,0.175
  region: -0.6,-0.175 -0.6,-0.325 -0.45,-0.325 -0.45,-0.175
  region: -0.4,-0.325 -0.4,-0.175 -0.45,-0.175 -0.45,-0.325
  region: -0.45,-0.125 -0.6,-0.125 -0.6,-0.175 -0.45,-0.175
  region: -0.65,-0.175 -0.65,-0.325 -0.6,-0.325 -0.6,-0.175
  rectangle: -0.6,-0.375 -0.45,-0.325
  region: -0.075,0.85 -0.075,0.7 0.075,0.7 0.075,0.85
  region: 0.125,0.7 0.125,0.85 0.075,0.85 0.075,0.7
  region: 0.075,0.9 -0.075,0.9 -0.075,0.85 0.075,0.85
  region: -0.125,0.85 -0.125,0.7 -0.075,0.7 -0.075,0.85
  rectangle: -0.075,0.65 0.075,0.7
  region: 0.45,-0.175 0.45,-0.325 0.6,-0.325 0.6,-0.175
  region: 0.65,-0.325 0.65,-0.175 0.6,-0.175 0.6,-0.325
  region: 0.6,-0.125 0.45,-0.125 0.45,-0.175 0.6,-0.175
  region: 0.4,-0.175 0.4,-0.325 0.45,-0.325 0.45,-0.175
  rectangle: 0.45,-0.375 0.6,-0.325
  region: 0.45,0.325 0.45,0.175 0.6,0.175 0.6,0.325
  region: 0.65,0.175 0.65,0.325 0.6,0.325 0.6,0.175
  region: 0.6,0.375 0.45,0.375 0.45,0.325 0.6,0.325
  region: 0.4,0.325 0.4,0.175 0.45,0.175 0.45,0.325
  rectangle: 0.45,0.125 0.6,0.175
  rectangle: -0.075,0.125 0.075,0.175
  region: -0.125,0.325 -0.125,0.175 -0.075,0.175 -0.075,0.325
  region: 0.075,0.375 -0.075,0.375 -0.075,0.325 0.075,0.325
  region: 0.125,0.175 0.125,0.325 0.075,0.325 0.075,0.175
  region: -0.075,0.325 -0.075,0.175 0.075,0.175 0.075,0.325
  rectangle: -0.075,-0.375 0.075,-0.325
  region: -0.125,-0.175 -0.125,-0.325 -0.075,-0.325 -0.075,-0.175
  region: 0.075,-0.125 -0.075,-0.125 -0.075,-0.175 0.075,-0.175
  region: 0.125,-0.325 0.125,-0.175 0.075,-0.175 0.075,-0.325
  region: -0.075,-0.175 -0.075,-0.325 0.075,-0.325 0.075,-0.175
  region: -0.6,0.85 -0.6,0.7 -0.45,0.7 -0.45,0.85
  region: -0.4,0.7 -0.4,0.85 -0.45,0.85 -0.45,0.7
  region: -0.45,0.9 -0.6,0.9 -0.6,0.85 -0.45,0.85
  region: -0.65,0.85 -0.65,0.7 -0.6,0.7 -0.6,0.85
  rectangle: -0.6,0.65 -0.45,0.7
  region: 0.45,0.85 0.45,0.7 0.6,0.7 0.6,0.85
  region: 0.65,0.7 0.65,0.85 0.6,0.85 0.6,0.7
  region: 0.6,0.9 0.45,0.9 0.45,0.85 0.6,0.85
  region: 0.4,0.85 0.4,0.7 0.45,0.7 0.45,0.85
  rectangle: 0.45,0.65 0.6,0.7
  rectangle: -0.6,-0.9 -0.45,-0.85
  region: -0.65,-0.7 -0.65,-0.85 -0.6,-0.85 -0.6,-0.7
  region: -0.45,-0.65 -0.6,-0.65 -0.6,-0.7 -0.45,-0.7
  region: -0.4,-0.85 -0.4,-0.7 -0.45,-0.7 -0.45,-0.85
  region: -0.6,-0.7 -0.6,-0.85 -0.45,-0.85 -0.45,-0.7
  rectangle: 0.45,-0.9 0.6,-0.85
  region: 0.4,-0.7 0.4,-0.85 0.45,-0.85 0.45,-0.7
  region: 0.6,-0.65 0.45,-0.65 0.45,-0.7 0.6,-0.7
  region: 0.65,-0.85 0.65,-0.7 0.6,-0.7 0.6,-0.85
  region: 0.45,-0.7 0.45,-0.85 0.6,-0.85 0.6,-0.7
Mechanical 13:
  lines w0.1: -0.76,-1 -0.76,1 0.76,1 0.76,-1 -0.76,-1
Mechanical 15:
  lines w0.1: -0.5,0 0.5,0 ; 0,-0.5 0,0.5 ; -0.86,-1.1 -0.86,1.1 0.86,1.1 0.86,-1.1 -0.86,-1.1
3D body: height 0.68, standoff 0, extent -0.759,-0.999 0.759,1

## SMD50P3X4-2.25X2.5-10V [mm] "Micro SMD, 10-Leads, Body 2.5x2.25mm, Pitch 0.5mm, NSC Recommended"
height 0.68
pads (10):
  round 0.265 smd paste-0.132 mask+0.05: A1(-0.5,0.75) A2(0,0.75) A3(0.5,0.75) B1(-0.5,0.25) B3(0.5,0.25) C1(-0.5,-0.25) C3(0.5,-0.25) D1(-0.5,-0.75) D2(0,-0.75) D3(0.5,-0.75)
Top Overlay:
  circle w0.1: c-1.23,1.355 r0.05
Top Paste:
  circle w0.05: c0.45,-0.7 r0.025
  circle w0.05: c0.6,-0.85 r0.025
  circle w0.05: c0.6,-0.7 r0.025
  circle w0.05: c0.45,-0.85 r0.025
  circle w0.05: c-0.075,-0.7 r0.025
  circle w0.05: c0.075,-0.85 r0.025
  circle w0.05: c0.075,-0.7 r0.025
  circle w0.05: c-0.075,-0.85 r0.025
  circle w0.05: c-0.6,-0.7 r0.025
  circle w0.05: c-0.45,-0.85 r0.025
  circle w0.05: c-0.45,-0.7 r0.025
  circle w0.05: c-0.6,-0.85 r0.025
  circle w0.05: c0.45,-0.175 r0.025
  circle w0.05: c0.6,-0.325 r0.025
  circle w0.05: c0.6,-0.175 r0.025
  circle w0.05: c0.45,-0.325 r0.025
  circle w0.05: c-0.6,-0.175 r0.025
  circle w0.05: c-0.45,-0.325 r0.025
  circle w0.05: c-0.45,-0.175 r0.025
  circle w0.05: c-0.6,-0.325 r0.025
  circle w0.05: c0.45,0.325 r0.025
  circle w0.05: c0.6,0.175 r0.025
  circle w0.05: c0.6,0.325 r0.025
  circle w0.05: c0.45,0.175 r0.025
  circle w0.05: c-0.6,0.325 r0.025
  circle w0.05: c-0.45,0.175 r0.025
  circle w0.05: c-0.45,0.325 r0.025
  circle w0.05: c-0.6,0.175 r0.025
  circle w0.05: c0.45,0.85 r0.025
  circle w0.05: c0.6,0.7 r0.025
  circle w0.05: c0.6,0.85 r0.025
  circle w0.05: c0.45,0.7 r0.025
  circle w0.05: c-0.075,0.85 r0.025
  circle w0.05: c0.075,0.7 r0.025
  circle w0.05: c0.075,0.85 r0.025
  circle w0.05: c-0.075,0.7 r0.025
  circle w0.05: c-0.6,0.85 r0.025
  circle w0.05: c-0.45,0.7 r0.025
  circle w0.05: c-0.45,0.85 r0.025
  circle w0.05: c-0.6,0.7 r0.025
  region: 0.6,-0.85 0.45,-0.85 0.45,-0.9 0.6,-0.9
  region: 0.6,-0.7 0.6,-0.85 0.65,-0.85 0.65,-0.7
  rectangle: 0.45,-0.7 0.6,-0.65
  region: 0.45,-0.85 0.45,-0.7 0.4,-0.7 0.4,-0.85
  region: 0.45,-0.7 0.45,-0.85 0.6,-0.85 0.6,-0.7
  region: 0.075,-0.85 -0.075,-0.85 -0.075,-0.9 0.075,-0.9
  region: 0.075,-0.7 0.075,-0.85 0.125,-0.85 0.125,-0.7
  rectangle: -0.075,-0.7 0.075,-0.65
  region: -0.075,-0.85 -0.075,-0.7 -0.125,-0.7 -0.125,-0.85
  region: -0.075,-0.7 -0.075,-0.85 0.075,-0.85 0.075,-0.7
  region: -0.45,-0.85 -0.6,-0.85 -0.6,-0.9 -0.45,-0.9
  region: -0.45,-0.7 -0.45,-0.85 -0.4,-0.85 -0.4,-0.7
  rectangle: -0.6,-0.7 -0.45,-0.65
  region: -0.6,-0.85 -0.6,-0.7 -0.65,-0.7 -0.65,-0.85
  region: -0.6,-0.7 -0.6,-0.85 -0.45,-0.85 -0.45,-0.7
  region: 0.6,-0.325 0.45,-0.325 0.45,-0.375 0.6,-0.375
  region: 0.6,-0.175 0.6,-0.325 0.65,-0.325 0.65,-0.175
  rectangle: 0.45,-0.175 0.6,-0.125
  region: 0.45,-0.325 0.45,-0.175 0.4,-0.175 0.4,-0.325
  region: 0.45,-0.175 0.45,-0.325 0.6,-0.325 0.6,-0.175
  region: -0.45,-0.325 -0.6,-0.325 -0.6,-0.375 -0.45,-0.375
  region: -0.45,-0.175 -0.45,-0.325 -0.4,-0.325 -0.4,-0.175
  rectangle: -0.6,-0.175 -0.45,-0.125
  region: -0.6,-0.325 -0.6,-0.175 -0.65,-0.175 -0.65,-0.325
  region: -0.6,-0.175 -0.6,-0.325 -0.45,-0.325 -0.45,-0.175
  region: 0.6,0.175 0.45,0.175 0.45,0.125 0.6,0.125
  region: 0.6,0.325 0.6,0.175 0.65,0.175 0.65,0.325
  rectangle: 0.45,0.325 0.6,0.375
  region: 0.45,0.175 0.45,0.325 0.4,0.325 0.4,0.175
  region: 0.45,0.325 0.45,0.175 0.6,0.175 0.6,0.325
  region: -0.45,0.175 -0.6,0.175 -0.6,0.125 -0.45,0.125
  region: -0.45,0.325 -0.45,0.175 -0.4,0.175 -0.4,0.325
  rectangle: -0.6,0.325 -0.45,0.375
  region: -0.6,0.175 -0.6,0.325 -0.65,0.325 -0.65,0.175
  region: -0.6,0.325 -0.6,0.175 -0.45,0.175 -0.45,0.325
  region: 0.6,0.7 0.45,0.7 0.45,0.65 0.6,0.65
  region: 0.6,0.85 0.6,0.7 0.65,0.7 0.65,0.85
  rectangle: 0.45,0.85 0.6,0.9
  region: 0.45,0.7 0.45,0.85 0.4,0.85 0.4,0.7
  region: 0.45,0.85 0.45,0.7 0.6,0.7 0.6,0.85
  region: 0.075,0.7 -0.075,0.7 -0.075,0.65 0.075,0.65
  region: 0.075,0.85 0.075,0.7 0.125,0.7 0.125,0.85
  rectangle: -0.075,0.85 0.075,0.9
  region: -0.075,0.7 -0.075,0.85 -0.125,0.85 -0.125,0.7
  region: -0.075,0.85 -0.075,0.7 0.075,0.7 0.075,0.85
  region: -0.45,0.7 -0.6,0.7 -0.6,0.65 -0.45,0.65
  region: -0.45,0.85 -0.45,0.7 -0.4,0.7 -0.4,0.85
  rectangle: -0.6,0.85 -0.45,0.9
  region: -0.6,0.7 -0.6,0.85 -0.65,0.85 -0.65,0.7
  region: -0.6,0.85 -0.6,0.7 -0.45,0.7 -0.45,0.85
Mechanical 13:
  lines w0.1: -1.125,-1.25 1.125,-1.25 1.125,1.25 -1.125,1.25 -1.125,-1.25
Mechanical 15:
  lines w0.1: -0.5,0 0.5,0 ; 0,-0.5 0,0.5 ; -1.225,-1.35 1.225,-1.35 1.225,1.35 -1.225,1.35 -1.225,-1.35
3D body: height 0.68, standoff 0, extent -1.125,-1.255 1.125,1.255